# EAGLE library part M22-71403XX (library Harwin)
M22-71403XX - 2x3 pos female header assy, 2.0mm pitch Datasheet: https://cdn.harwin.com/pdfs/M22-714.pdf
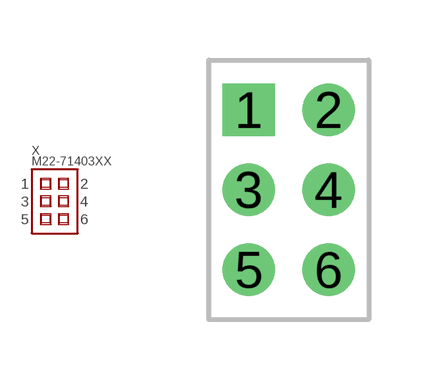
[diagram p2: symbol with the pads of M22-71403XX; footprint M22-71403XX]

Designator prefix X

## M22-71403XX (PARTNO: M22-7140342)  [M22-71403XX]
1  1
2  2
3  3
4  4
5  5
6  6

## Footprint M22-71403XX (pad centres in mm)
M22-71403XX - 2.00mm pitch DIL female vertical pin header assembly Datasheet: https://cdn.harwin.com/pdfs/M22-714.pdf
drill 0.8 square: 1 -1,2
drill 0.8 round: 2 1,2; 3 -1,0; 4 1,0; 5 -1,-2; 6 1,-2